# Altium schematic symbol library IC.SchLib: 2 symbols
Pins are listed as number, name and electrical type; pins without a type are passive.

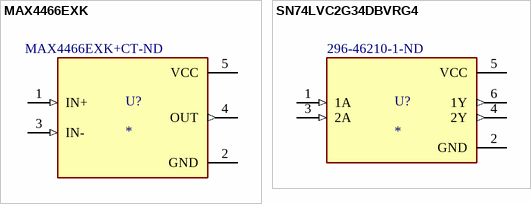
[diagram p0: symbols MAX4466EXK to SN74LVC2G34DBVRG4]

## MAX4466EXK
designator U?  Supplier Part Number 1: MAX4466EXK+CT-ND
Amplifier IC 1-Channel _Mono_ Class AB SC-70-5; MF: Maxim Integrated; MP: MAX4466EXK+T; Price: None; Value: *; Package: SC-70-5 Maxim; SnapEDA_Link: https://www.snapeda.com/parts/MAX4466EXK%2BT/Maxim%20Integrated/view-part/548008/?ref=snap; Availability: Unavailable; Supplier 1: Digi-Key
footprint SOT65P210X110-5N
pins: 1 IN+ (in), 2 GND (power), 3 IN- (in), 4 OUT (out), 5 VCC (power)

## SN74LVC2G34DBVRG4
designator U?  Supplier Part Number 1: 296-46210-1-ND
Dual Buffer Gate 6-SOT-23 -40 to 125; MF: Texas Instruments; MP: SN74LVC2G34DBVRG4; Value: *; Check_prices: https://www.snapeda.com/parts/SN74LVC2G34DBVRG4/Texas+Instruments/view-part/?ref=eda; Digi-Key_Part_Number: 296-46210-1-ND; Package: SOT-23-6 Texas Instruments; Purchase-URL: https://pricing.snapeda.com/search/part/SN74LVC2G34DBVRG4/?ref=eda; SnapEDA_Link: https://www.snapeda.com/parts/SN74LVC2G34DBVRG4/Texas+Instruments/view-part/?ref=snap; Supplier 1: Digi-Key
footprint SOT95P280X145-6N
pins: 1 1A (in), 2 GND (power), 3 2A (in), 4 2Y (out), 5 VCC (power), 6 1Y (out)